# Altium footprint library SmartControl.PcbLib: 1 footprints
Each footprint in its own frame and in the unit in brackets; x right, y up, seen from the top. Pads: shape width x height; smd on the part's side, far side on the other; paste and mask are expansions set on the pad; w line width, h text height; cw(c..) or ccw(c..) is an arc to the next point about the centre after c.
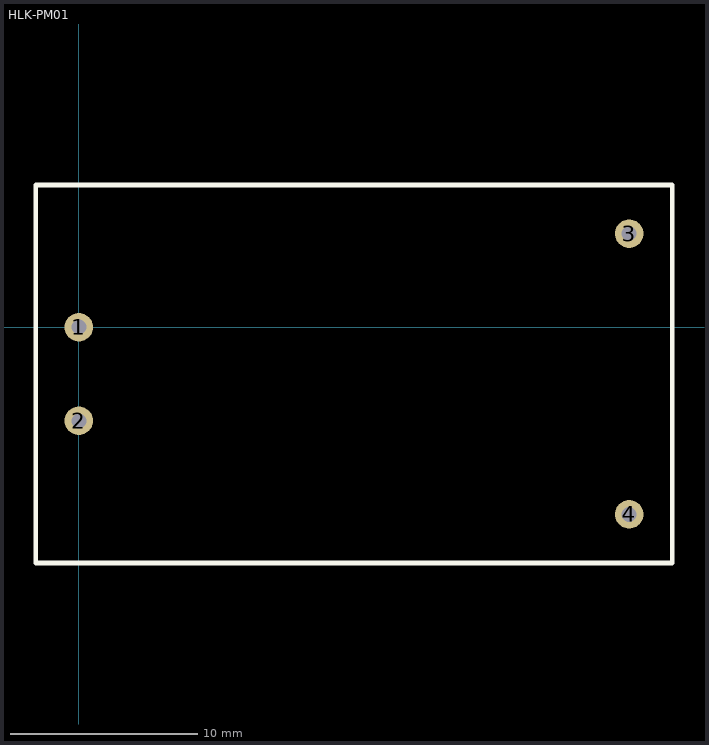
[diagram p0: the footprint, top view; thin cyan lines are the x and y axes]

## HLK-PM01 [mm]
height 0.381
pads (4):
  round 1.524 hole 0.8: 1(0,0) 2(0,-5) 3(29.4,5) 4(29.4,-10)
Top Overlay:
  lines w0.254: -2.3,-12.6 31.7,-12.6 31.7,7.6 -2.3,7.6 -2.3,-12.6
3D body: height 15.5, standoff -4.5, extent -2.25,-12.64 31.75,7.56